# Altium schematic symbol library AdamsParts.SchLib: 265 symbols (part 3 of 3)
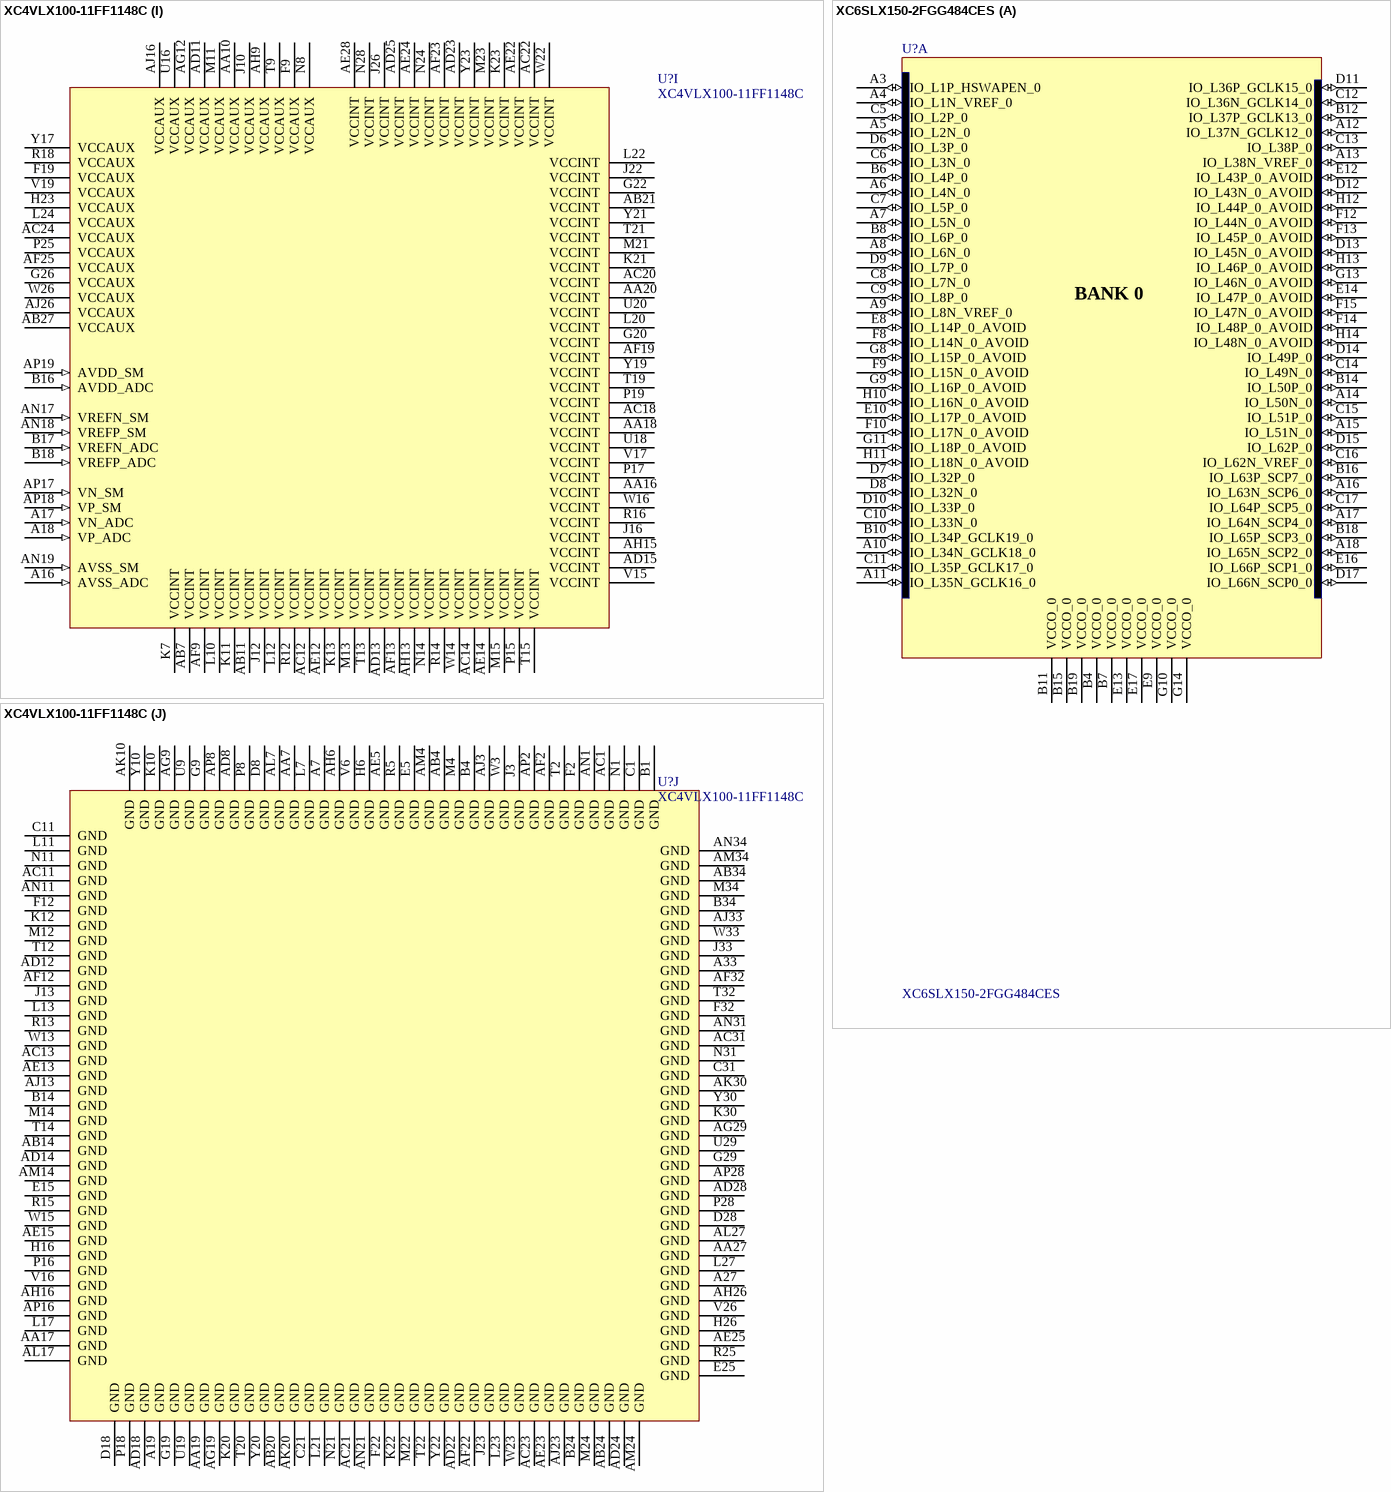
[diagram p22: symbols XC4VLX100-11FF1148C to XC6SLX150-2FGG484CES]

## XC4VLX100-11FF1148C
designator U?
Xilinx Virtex-4 LX Platform FPGA, 1148-Ball FFBGA, Speed Grade 11, 768 User I/Os, Commercial Grade; PackageDocument: ver1.0, Oct-2002; Published: 13-Dec-2004; LatestRevisionDate: 4-Mar-2005; LatestRevisionNote: D_IN & CS_B pins changed from I/O to Input. DOUT_BUSY pin changed from I/O to Output.; DatasheetDocument: ver1.2, Dec-2004; PackageReference: FF1148; Publisher: Altium Limited; ComponentLink2Description: Virtex-4 Overview; ComponentLink2URL: http://www.xilinx.com/products/virtex4/overview.htm; ComponentLink3Description: Datasheet; ComponentLink3URL: http://direct.xilinx.com/bvdocs/userguides/ug075.pdf; Code_JEDEC: MS-034-AAR-1
footprint FF1148 (1148-Ball Flip-Chip Fine Pitch Ball Grid Array (FF1148))
3D model XC4VLX100-FF1148 (1148-Ball Flip-Chip Fine Pitch Ball Grid Array (FF1148))
signal-integrity model XC4VLX100_FF1148 (Virtex-4)
part A pins: A15 IO_L24P_LC_1 (io), A20 IO_L17N_CC_LC_1 (io), AB15 IO_L2N_D12_LC_2 (io), AB16 IO_L14N_GC_LC_2 (io), AB17 IO_L14P_GC_LC_2 (io), AB18 IO_L9N_GC_CC_LC_2 (io), AB19 VCCO_2 (power), AC15 IO_L2P_D13_LC_2 (io), AC16 VCCO_2 (power), AC17 IO_L12N_GC_VREF_LC_2 (io), AC19 IO_L9P_GC_CC_LC_2 (io), AD16 IO_L10P_GC_LC_2 (io), AD17 IO_L12P_GC_LC_2 (io), AD19 IO_L23P_VRN_LC_2 (io), AD20 IO_L17N_LC_2 (io), AD21 IO_L17P_LC_2 (io), AE19 IO_L23N_VRP_LC_2 (io), AE20 VCCO_2 (power), AE21 IO_L7P_D3_LC_2 (io), AF14 IO_L6P_D5_LC_2 (io), AF15 IO_L10N_GC_LC_2 (io), AF20 IO_L5N_D6_LC_2 (io), AF21 IO_L7N_D2_LC_2 (io), AG13 IO_L6N_D4_LC_2 (io), AG14 VCCO_2 (power), AG15 IO_L22P_LC_2 (io), AG20 IO_L21P_LC_2 (io), AG21 IO_L5P_D7_LC_2 (io), AG22 IO_L3P_D11_LC_2 (io), AH14 IO_L22N_LC_2 (io), AH20 IO_L21N_LC_2 (io), AH21 VCCO_2 (power), AH22 IO_L3N_D10_LC_2 (io), AJ14 IO_L20N_VREF_LC_2 (io), AJ15 IO_L20P_LC_2 (io), AJ20 IO_L19P_LC_2 (io), AJ21 IO_L1N_D14_CC_LC_2 (io), AJ22 IO_L1P_D15_CC_LC_2 (io), AK14 IO_L4N_D8_VREF_LC_2 (io), AK15 VCCO_2 (power), AK16 IO_L24N_CC_LC_2 (io), AL14 IO_L4P_D9_LC_2 (io), AL15 IO_L18N_LC_2 (io), AL16 IO_L24P_CC_LC_2 (io), AL18 IO_L15P_GC_LC_2 (io), AL19 IO_L13N_GC_LC_2 (io), AL20 IO_L19N_LC_2 (io), AM15 IO_L18P_LC_2 (io), AM16 IO_L16N_GC_LC_2 (io), AM17 IO_L16P_GC_LC_2 (io), AM18 IO_L15N_GC_LC_2 (io), AM19 VCCO_2 (power), AM20 IO_L13P_GC_LC_2 (io), AN15 IO_L8N_D0_LC_2 (io), AN16 VCCO_2 (power), AN20 IO_L11P_GC_LC_2 (io), AP15 IO_L8P_D1_LC_2 (io), AP20 IO_L11N_GC_LC_2 (io), B15 IO_L24N_LC_1 (io), B19 VCCO_1 (power), B20 IO_L17P_CC_LC_1 (io), C15 IO_L14N_GC_LC_1 (io), C16 VCCO_1 (power), C17 IO_L12P_GC_LC_1 (io), C18 IO_L13N_GC_LC_1 (io), C19 IO_L13P_GC_LC_1 (io), C20 IO_L15N_GC_LC_1 (io), D16 IO_L14P_GC_LC_1 (io), D17 IO_L12N_GC_VREF_LC_1 (io), D19 IO_L11N_GC_LC_1 (io), D20 IO_L15P_GC_LC_1 (io), D21 IO_L3N_D26_LC_1 (io), E19 IO_L11P_GC_LC_1 (io), E20 VCCO_1 (power), E21 IO_L3P_D27_LC_1 (io), F13 IO_L8P_D17_CC_LC_1 (io), F14 IO_L22N_LC_1 (io), F20 IO_L23N_LC_1 (io), F21 IO_L23P_LC_1 (io), G13 IO_L8N_D16_CC_LC_1 (io), G14 VCCO_1 (power), G15 IO_L22P_LC_1 (io), G21 IO_L21P_LC_1 (io), H13 IO_L6N_D20_LC_1 (io), H14 IO_L6P_D21_LC_1 (io), H15 IO_L20P_LC_1 (io), H20 IO_L21N_LC_1 (io), H21 VCCO_1 (power), H22 IO_L7P_D19_LC_1 (io), J14 IO_L4P_D25_LC_1 (io), J15 IO_L20N_VREF_LC_1 (io), J20 IO_L19P_LC_1 (io), J21 IO_L7N_D18_LC_1 (io), K14 IO_L4N_D24_VREF_LC_1 (io), K15 VCCO_1 (power), K16 IO_L18P_VRN_LC_1 (io), L14 IO_L2N_D28_LC_1 (io), L15 IO_L2P_D29_LC_1 (io), L16 IO_L18N_VRP_LC_1 (io), L18 IO_L9N_GC_LC_1 (io), L19 IO_L19N_LC_1 (io), M16 IO_L16P_GC_CC_LC_1 (io), M17 IO_L10P_GC_LC_1 (io), M18 IO_L9P_GC_LC_1 (io), M19 VCCO_1 (power), M20 IO_L5N_D22_LC_1 (io), N15 IO_L16N_GC_CC_LC_1 (io), N16 VCCO_1 (power), N17 IO_L10N_GC_LC_1 (io), N18 IO_L1N_D30_LC_1 (io), N19 IO_L1P_D31_LC_1 (io), N20 IO_L5P_D23_LC_1 (io)
part B pins: AE16 IO_L6N_GC_LC_4 (io), AE17 IO_L6P_GC_LC_4 (io), AE18 IO_L1N_GC_LC_4 (io), AF16 IO_L2N_GC_LC_4 (io), AF17 VCCO_4 (power), AF18 IO_L1P_GC_LC_4 (io), AG16 IO_L2P_GC_LC_4 (io), AG17 IO_L5N_GC_LC_4 (io), AG18 IO_L5P_GC_LC_4 (io), AH17 IO_L8N_GC_CC_LC_4 (io), AH18 IO_L3N_GC_LC_4 (io), AH19 IO_L3P_GC_LC_4 (io), AJ17 IO_L8P_GC_CC_LC_4 (io), AJ18 VCCO_4 (power), AJ19 IO_L7P_GC_VRN_LC_4 (io), AK17 IO_L4N_GC_VREF_LC_4 (io), AK18 IO_L4P_GC_LC_4 (io), AK19 IO_L7N_GC_VRP_LC_4 (io), E16 IO_L6P_GC_LC_3 (io), E17 IO_L4N_GC_VREF_LC_3 (io), E18 IO_L4P_GC_LC_3 (io), F16 IO_L6N_GC_LC_3 (io), F17 VCCO_3 (power), F18 IO_L1P_GC_CC_LC_3 (io), G16 IO_L8N_GC_LC_3 (io), G17 IO_L8P_GC_LC_3 (io), G18 IO_L1N_GC_CC_LC_3 (io), H17 IO_L2P_GC_VRN_LC_3 (io), H18 IO_L3N_GC_LC_3 (io), H19 IO_L3P_GC_LC_3 (io), J17 IO_L2N_GC_VRP_LC_3 (io), J18 VCCO_3 (power), J19 IO_L7N_GC_LC_3 (io), K17 IO_L5N_GC_LC_3 (io), K18 IO_L5P_GC_LC_3 (io), K19 IO_L7P_GC_LC_3 (io)
part C pins: A2 VCCO_6 (power), A3 IO_L20N_VREF_6 (io), A4 IO_L20P_6 (io), A5 IO_L22P_6 (io), A6 IO_L12P_6 (io), A8 IO_L10P_6 (io), A9 IO_L15N_6 (io), A10 IO_L15P_6 (io), A11 IO_L3P_6 (io), A12 VCCO_6 (power), A13 IO_L17N_6 (io), A14 IO_L17P_6 (io), A21 IO_L21N_5 (io), A22 VCCO_5 (power), A23 IO_L1N_ADC7_5 (io), A24 IO_L3P_ADC5_5 (io), A25 IO_L3N_ADC5_5 (io), A26 IO_L2P_ADC6_5 (io), A28 IO_L14P_5 (io), A29 IO_L14N_5 (io), A30 IO_L18P_5 (io), A31 IO_L24P_CC_LC_5 (io), A32 VCCO_5 (power), B2 IO_L30N_6 (io), B3 IO_L30P_6 (io), B5 IO_L22N_6 (io), B6 IO_L12N_VREF_6 (io), B7 IO_L14P_6 (io), B8 IO_L10N_6 (io), B9 VCCO_6 (power), B10 IO_L2P_6 (io), B11 IO_L3N_6 (io), B12 IO_L9N_CC_LC_6 (io), B13 IO_L9P_CC_LC_6 (io), B21 IO_L21P_5 (io), B22 IO_L17N_5 (io), B23 IO_L1P_ADC7_5 (io), B25 IO_L15P_5 (io), B26 IO_L2N_ADC6_5 (io), B27 IO_L8P_CC_ADC1_LC_5 (io), B28 IO_L25P_CC_LC_5 (io), B29 VCCO_5 (power), B30 IO_L18N_5 (io), B31 IO_L24N_CC_LC_5 (io), B32 IO_L31P_5 (io), B33 IO_L31N_5 (io), C5 IO_L27P_6 (io), C6 VCCO_6 (power), C7 IO_L14N_6 (io), C8 IO_L4N_VREF_6 (io), C9 IO_L4P_6 (io), C10 IO_L2N_6 (io), C12 IO_L1N_6 (io), C13 IO_L25N_CC_LC_6 (io), C14 IO_L25P_CC_LC_6 (io), C22 IO_L17P_5 (io), C23 IO_L5P_ADC4_5 (io), C24 IO_L5N_ADC4_5 (io), C25 IO_L15N_5 (io), C26 VCCO_5 (power), C27 IO_L8N_CC_ADC1_LC_5 (io), C28 IO_L25N_CC_LC_5 (io), C29 IO_L20P_5 (io), C30 IO_L20N_VREF_5 (io), D5 IO_L27N_6 (io), D6 IO_L18N_6 (io), D7 IO_L18P_6 (io), D9 IO_L19P_6 (io), D10 IO_L7N_6 (io), D11 IO_L7P_6 (io), D12 IO_L1P_6 (io), D13 VCCO_6 (power), D14 IO_L29N_6 (io), D22 IO_L23N_VRP_5 (io), D23 VCCO_5 (power), D24 IO_L7P_ADC2_5 (io), D25 IO_L7N_ADC2_5 (io), D26 IO_L10P_5 (io), D27 IO_L12P_5 (io), D29 IO_L29P_5 (io), D30 IO_L26P_5 (io), D31 IO_L26N_5 (io), E6 IO_L26P_6 (io), E7 IO_L23N_VRP_6 (io), E8 IO_L23P_VRN_6 (io), E9 IO_L19N_6 (io), E10 VCCO_6 (power), E11 IO_L11P_6 (io), E12 IO_L21N_6 (io), E13 IO_L21P_6 (io), E14 IO_L29P_6 (io), E22 IO_L23P_VRN_5 (io), E23 IO_L9N_CC_LC_5 (io), E24 IO_L11N_5 (io), E26 IO_L10N_5 (io), E27 IO_L12N_VREF_5 (io), E28 IO_L22P_5 (io), E29 IO_L29N_5 (io), E30 VCCO_5 (power), E31 IO_L32P_5 (io), F6 IO_L26N_6 (io), F7 VCCO_6 (power), F8 IO_L16P_6 (io), F10 IO_L6P_6 (io), F11 IO_L11N_6 (io), F23 IO_L9P_CC_LC_5 (io), F24 IO_L11P_5 (io), F25 IO_L6P_ADC3_5 (io), F26 IO_L6N_ADC3_5 (io), F27 VCCO_5 (power), F28 IO_L22N_5 (io), F29 IO_L28P_5 (io), F30 IO_L28N_VREF_5 (io), F31 IO_L32N_5 (io), G6 IO_L28N_VREF_6 (io), G7 IO_L28P_6 (io), G8 IO_L16N_6 (io), G10 IO_L6N_6 (io), G11 IO_L5N_6 (io), G12 IO_L5P_6 (io), G23 IO_L13P_5 (io), G24 VCCO_5 (power), G25 IO_L4P_5 (io), G27 IO_L27P_5 (io), G28 IO_L27N_5 (io), H7 IO_L31N_6 (io), H8 IO_L31P_6 (io), H9 IO_L8N_CC_LC_6 (io), H10 IO_L8P_CC_LC_6 (io), H11 VCCO_6 (power), H12 IO_L13P_6 (io), H24 IO_L13N_5 (io), H25 IO_L4N_VREF_5 (io), J7 IO_L32N_6 (io), J8 VCCO_6 (power), J9 IO_L24P_CC_LC_6 (io), J11 IO_L13N_6 (io), J24 IO_L19N_5 (io), J25 IO_L16P_5 (io), K8 IO_L32P_6 (io), K9 IO_L24N_CC_LC_6 (io), K24 IO_L19P_5 (io), K25 VCCO_5 (power), K26 IO_L16N_5 (io), L25 IO_L30P_5 (io), L26 IO_L30N_5 (io)
part D pins: AD9 IO_L4N_VREF_8 (io), AD10 IO_L4P_8 (io), AE9 IO_L20N_VREF_8 (io), AE10 VCCO_8 (power), AE11 IO_L26P_8 (io), AE26 IO_L3N_7 (io), AE27 IO_L2N_7 (io), AF10 IO_L20P_8 (io), AF11 IO_L26N_8 (io), AF24 IO_L21N_7 (io), AF26 IO_L3P_7 (io), AF27 VCCO_7 (power), AF28 IO_L2P_7 (io), AG10 IO_L30N_8 (io), AG11 IO_L17N_8 (io), AG23 IO_L21P_7 (io), AG24 VCCO_7 (power), AG25 IO_L22P_7 (io), AG26 IO_L22N_7 (io), AG27 IO_L8P_CC_LC_7 (io), AG28 IO_L8N_CC_LC_7 (io), AH7 IO_L12N_VREF_8 (io), AH8 IO_L12P_8 (io), AH10 IO_L30P_8 (io), AH11 VCCO_8 (power), AH12 IO_L17P_8 (io), AH23 IO_L23P_VRN_7 (io), AH24 IO_L23N_VRP_7 (io), AH25 IO_L28N_VREF_7 (io), AH27 IO_L16N_7 (io), AH28 IO_L6P_7 (io), AH29 IO_L6N_7 (io), AJ4 IO_L2N_8 (io), AJ5 IO_L6N_8 (io), AJ6 IO_L6P_8 (io), AJ7 IO_L7N_8 (io), AJ8 VCCO_8 (power), AJ9 IO_L15N_8 (io), AJ10 IO_L15P_8 (io), AJ11 IO_L23P_VRN_8 (io), AJ12 IO_L21P_8 (io), AJ24 IO_L19N_7 (io), AJ25 IO_L28P_7 (io), AJ27 IO_L16P_7 (io), AJ28 VCCO_7 (power), AJ29 IO_L1N_7 (io), AK4 IO_L2P_8 (io), AK5 VCCO_8 (power), AK6 IO_L10N_8 (io), AK7 IO_L7P_8 (io), AK8 IO_L11N_8 (io), AK9 IO_L28N_VREF_8 (io), AK11 IO_L23N_VRP_8 (io), AK12 IO_L21N_8 (io), AK13 IO_L9P_CC_LC_8 (io), AK21 IO_L5P_7 (io), AK22 IO_L13P_7 (io), AK23 IO_L13N_7 (io), AK24 IO_L19P_7 (io), AK25 VCCO_7 (power), AK26 IO_L26N_SM6_7 (io), AK27 IO_L20P_7 (io), AK28 IO_L20N_VREF_7 (io), AK29 IO_L1P_7 (io), AL4 IO_L1N_8 (io), AL5 IO_L1P_8 (io), AL6 IO_L10P_8 (io), AL8 IO_L11P_8 (io), AL9 IO_L28P_8 (io), AL10 IO_L25N_CC_LC_8 (io), AL11 IO_L25P_CC_LC_8 (io), AL12 VCCO_8 (power), AL13 IO_L9N_CC_LC_8 (io), AL21 IO_L5N_7 (io), AL22 VCCO_7 (power), AL23 IO_L31P_SM2_7 (io), AL24 IO_L25P_CC_SM7_LC_7 (io), AL25 IO_L25N_CC_SM7_LC_7 (io), AL26 IO_L26P_SM6_7 (io), AL28 IO_L14P_7 (io), AL29 IO_L14N_7 (io), AL30 IO_L10N_7 (io), AM5 IO_L14N_8 (io), AM6 IO_L14P_8 (io), AM7 IO_L18N_8 (io), AM8 IO_L22N_8 (io), AM9 VCCO_8 (power), AM10 IO_L19N_8 (io), AM11 IO_L27N_8 (io), AM12 IO_L27P_8 (io), AM13 IO_L13P_8 (io), AM21 IO_L9P_CC_LC_7 (io), AM22 IO_L9N_CC_LC_7 (io), AM23 IO_L31N_SM2_7 (io), AM25 IO_L32N_SM1_7 (io), AM26 IO_L30P_SM3_7 (io), AM27 IO_L30N_SM3_7 (io), AM28 IO_L24N_CC_LC_7 (io), AM29 VCCO_7 (power), AM30 IO_L10P_7 (io), AN2 IO_L8N_CC_LC_8 (io), AN3 IO_L8P_CC_LC_8 (io), AN4 IO_L3N_8 (io), AN5 IO_L16N_8 (io), AN6 VCCO_8 (power), AN7 IO_L18P_8 (io), AN8 IO_L22P_8 (io), AN9 IO_L32N_8 (io), AN10 IO_L19P_8 (io), AN12 IO_L31P_8 (io), AN13 IO_L13N_8 (io), AN14 IO_L5P_8 (io), AN22 IO_L27P_SM5_7 (io), AN23 IO_L27N_SM5_7 (io), AN24 IO_L29N_SM4_7 (io), AN25 IO_L32P_SM1_7 (io), AN26 VCCO_7 (power), AN27 IO_L11N_7 (io), AN28 IO_L24P_CC_LC_7 (io), AN29 IO_L18N_7 (io), AN30 IO_L7N_7 (io), AN32 IO_L4P_7 (io), AN33 IO_L4N_VREF_7 (io), AP3 VCCO_8 (power), AP4 IO_L3P_8 (io), AP5 IO_L16P_8 (io), AP6 IO_L24N_CC_LC_8 (io), AP7 IO_L24P_CC_LC_8 (io), AP9 IO_L32P_8 (io), AP10 IO_L29N_8 (io), AP11 IO_L29P_8 (io), AP12 IO_L31N_8 (io), AP13 VCCO_8 (power), AP14 IO_L5N_8 (io), AP21 IO_L17P_7 (io), AP22 IO_L17N_7 (io), AP23 VCCO_7 (power), AP24 IO_L29P_SM4_7 (io), AP25 IO_L15P_7 (io), AP26 IO_L15N_7 (io), AP27 IO_L11P_7 (io), AP29 IO_L18P_7 (io), AP30 IO_L7P_7 (io), AP31 IO_L12P_7 (io), AP32 IO_L12N_VREF_7 (io), AP33 VCCO_7 (power)
part E pins: C2 IO_L7P_10 (io), C3 IO_L1N_10 (io), C4 IO_L1P_10 (io), C32 IO_L2P_9 (io), C33 IO_L7P_9 (io), C34 IO_L7N_9 (io), D1 IO_L8P_CC_LC_10 (io), D2 IO_L7N_10 (io), D3 VCCO_10 (power), D4 IO_L3P_10 (io), D32 IO_L2N_9 (io), D33 VCCO_9 (power), D34 IO_L8P_CC_LC_9 (io), E1 IO_L8N_CC_LC_10 (io), E2 IO_L9N_CC_LC_10 (io), E3 IO_L9P_CC_LC_10 (io), E4 IO_L3N_10 (io), E32 IO_L11P_9 (io), E33 IO_L11N_9 (io), E34 IO_L8N_CC_LC_9 (io), F1 IO_L17P_10 (io), F3 IO_L6N_10 (io), F4 IO_L6P_10 (io), F5 IO_L2P_10 (io), F33 IO_L14P_9 (io), F34 IO_L14N_9 (io), G1 IO_L17N_10 (io), G2 IO_L14N_10 (io), G3 IO_L14P_10 (io), G4 VCCO_10 (power), G5 IO_L2N_10 (io), G30 IO_L9P_CC_LC_9 (io), G31 IO_L9N_CC_LC_9 (io), G32 IO_L16P_9 (io), G33 IO_L16N_9 (io), G34 VCCO_9 (power), H1 VCCO_10 (power), H2 IO_L19N_10 (io), H3 IO_L19P_10 (io), H4 IO_L11N_10 (io), H5 IO_L11P_10 (io), H27 IO_L1P_9 (io), H28 IO_L1N_9 (io), H29 IO_L6P_9 (io), H30 IO_L6N_9 (io), H31 VCCO_9 (power), H32 IO_L20P_9 (io), H33 IO_L22P_9 (io), H34 IO_L22N_9 (io), J1 IO_L23N_VRP_10 (io), J2 IO_L23P_VRN_10 (io), J4 IO_L18P_10 (io), J5 IO_L10N_10 (io), J6 IO_L10P_10 (io), J27 IO_L3P_9 (io), J28 VCCO_9 (power), J29 IO_L10P_9 (io), J30 IO_L10N_9 (io), J31 IO_L23P_VRN_9 (io), J32 IO_L20N_VREF_9 (io), J34 IO_L29P_9 (io), K1 IO_L26N_10 (io), K2 IO_L26P_10 (io), K3 IO_L25P_CC_LC_10 (io), K4 IO_L18N_10 (io), K5 VCCO_10 (power), K6 IO_L16P_10 (io), K27 IO_L3N_9 (io), K28 IO_L15P_9 (io), K29 IO_L15N_9 (io), K31 IO_L23N_VRP_9 (io), K32 IO_L26P_9 (io), K33 IO_L26N_9 (io), K34 IO_L29N_9 (io), L1 IO_L29P_10 (io), L2 VCCO_10 (power), L3 IO_L25N_CC_LC_10 (io), L4 IO_L22N_10 (io), L5 IO_L22P_10 (io), L6 IO_L16N_10 (io), L8 IO_L15P_10 (io), L9 IO_L4N_VREF_10 (io), L28 IO_L18P_9 (io), L29 IO_L18N_9 (io), L30 IO_L24P_CC_LC_9 (io), L31 IO_L24N_CC_LC_9 (io), L32 VCCO_9 (power), L33 IO_L31P_9 (io), L34 IO_L31N_9 (io), M1 IO_L29N_10 (io), M2 IO_L28N_VREF_10 (io), M3 IO_L28P_10 (io), M5 IO_L27N_10 (io), M6 IO_L27P_10 (io), M7 IO_L21P_10 (io), M8 IO_L15N_10 (io), M9 VCCO_10 (power), M10 IO_L4P_10 (io), M25 IO_L4P_9 (io), M26 IO_L4N_VREF_9 (io), M27 IO_L21P_9 (io), M28 IO_L21N_9 (io), M29 VCCO_9 (power), M30 IO_L28P_9 (io), M31 IO_L28N_VREF_9 (io), M32 IO_L32P_9 (io), M33 IO_L32N_9 (io), N5 IO_L30P_10 (io), N6 VCCO_10 (power), N7 IO_L21N_10 (io), N9 IO_L12N_VREF_10 (io), N10 IO_L12P_10 (io), N12 IO_L5N_10 (io), N13 IO_L5P_10 (io), N22 IO_L5P_9 (io), N23 IO_L5N_9 (io), N25 IO_L12P_9 (io), N26 VCCO_9 (power), N27 IO_L27P_9 (io), N29 IO_L30P_9 (io), N30 IO_L30N_9 (io), P5 IO_L30N_10 (io), P6 IO_L31N_10 (io), P7 IO_L31P_10 (io), P9 IO_L20N_VREF_10 (io), P10 IO_L20P_10 (io), P11 IO_L13N_10 (io), P12 IO_L13P_10 (io), P13 VCCO_10 (power), P20 IO_L17P_9 (io), P22 IO_L13P_9 (io), P23 VCCO_9 (power), P24 IO_L19P_9 (io), P26 IO_L12N_VREF_9 (io), P27 IO_L27N_9 (io), R9 IO_L32N_10 (io), R10 VCCO_10 (power), R11 IO_L24P_CC_LC_10 (io), R19 IO_L17N_9 (io), R20 VCCO_9 (power), R21 IO_L13N_9 (io), R22 IO_L25P_CC_LC_9 (io), R23 IO_L25N_CC_LC_9 (io), R24 IO_L19N_9 (io), T10 IO_L32P_10 (io), T11 IO_L24N_CC_LC_10 (io)
part F pins: AA8 IO_L8N_CC_LC_12 (io), AA9 IO_L8P_CC_LC_12 (io), AA11 IO_L3N_12 (io), AA12 VCCO_12 (power), AA13 IO_L5N_12 (io), AA15 IO_L13N_12 (io), AA22 VCCO_11 (power), AA23 IO_L17P_11 (io), AA24 IO_L17N_11 (io), AA25 IO_L9P_CC_LC_11 (io), AA26 IO_L9N_CC_LC_11 (io), AA28 IO_L1P_11 (io), AA29 IO_L1N_11 (io), AA30 IO_L3N_11 (io), AB5 IO_L1N_12 (io), AB6 IO_L1P_12 (io), AB8 IO_L12N_VREF_12 (io), AB9 VCCO_12 (power), AB10 IO_L25N_CC_LC_12 (io), AB12 IO_L29N_12 (io), AB13 IO_L29P_12 (io), AB22 IO_L29P_11 (io), AB23 IO_L29N_11 (io), AB25 IO_L20P_11 (io), AB26 IO_L20N_VREF_11 (io), AB28 IO_L11N_11 (io), AB29 VCCO_11 (power), AB30 IO_L3P_11 (io), AC2 IO_L2N_12 (io), AC3 IO_L2P_12 (io), AC4 IO_L6N_12 (io), AC5 IO_L6P_12 (io), AC6 VCCO_12 (power), AC7 IO_L12P_12 (io), AC8 IO_L17N_12 (io), AC9 IO_L17P_12 (io), AC10 IO_L25P_CC_LC_12 (io), AC25 IO_L23P_VRN_11 (io), AC26 VCCO_11 (power), AC27 IO_L19N_11 (io), AC28 IO_L11P_11 (io), AC29 IO_L7P_11 (io), AC30 IO_L7N_11 (io), AC32 IO_L6P_11 (io), AC33 IO_L6N_11 (io), AC34 IO_L8N_CC_LC_11 (io), AD1 IO_L4N_VREF_12 (io), AD2 IO_L4P_12 (io), AD3 VCCO_12 (power), AD4 IO_L14N_12 (io), AD5 IO_L11N_12 (io), AD6 IO_L11P_12 (io), AD7 IO_L24N_CC_LC_12 (io), AD26 IO_L23N_VRP_11 (io), AD27 IO_L19P_11 (io), AD29 IO_L15N_11 (io), AD30 IO_L12P_11 (io), AD31 IO_L12N_VREF_11 (io), AD32 IO_L10N_11 (io), AD33 VCCO_11 (power), AD34 IO_L8P_CC_LC_11 (io), AE1 IO_L7N_12 (io), AE2 IO_L10N_12 (io), AE3 IO_L10P_12 (io), AE4 IO_L14P_12 (io), AE6 IO_L19N_12 (io), AE7 IO_L24P_CC_LC_12 (io), AE8 IO_L27N_12 (io), AE29 IO_L15P_11 (io), AE30 VCCO_11 (power), AE31 IO_L16N_11 (io), AE32 IO_L10P_11 (io), AE33 IO_L5P_11 (io), AE34 IO_L5N_11 (io), AF1 IO_L7P_12 (io), AF3 IO_L18N_12 (io), AF4 IO_L20N_VREF_12 (io), AF5 IO_L20P_12 (io), AF6 IO_L19P_12 (io), AF7 VCCO_12 (power), AF8 IO_L27P_12 (io), AF29 IO_L24P_CC_LC_11 (io), AF30 IO_L24N_CC_LC_11 (io), AF31 IO_L16P_11 (io), AF33 IO_L14P_11 (io), AF34 IO_L14N_11 (io), AG1 IO_L16N_12 (io), AG2 IO_L16P_12 (io), AG3 IO_L18P_12 (io), AG4 VCCO_12 (power), AG5 IO_L23N_VRP_12 (io), AG6 IO_L23P_VRN_12 (io), AG7 IO_L31N_12 (io), AG8 IO_L31P_12 (io), AG30 IO_L21P_11 (io), AG31 IO_L21N_11 (io), AG32 IO_L13P_11 (io), AG33 IO_L13N_11 (io), AG34 VCCO_11 (power), AH1 VCCO_12 (power), AH2 IO_L15N_12 (io), AH3 IO_L15P_12 (io), AH4 IO_L28N_VREF_12 (io), AH5 IO_L28P_12 (io), AH30 IO_L32N_11 (io), AH31 VCCO_11 (power), AH32 IO_L22P_11 (io), AH33 IO_L22N_11 (io), AH34 IO_L18N_11 (io), AJ1 IO_L22N_12 (io), AJ2 IO_L22P_12 (io), AJ30 IO_L32P_11 (io), AJ31 IO_L28P_11 (io), AJ32 IO_L28N_VREF_11 (io), AJ34 IO_L18P_11 (io), AK1 IO_L21N_12 (io), AK2 IO_L26N_12 (io), AK3 IO_L26P_12 (io), AK31 IO_L25P_CC_LC_11 (io), AK32 IO_L25N_CC_LC_11 (io), AK33 IO_L26P_11 (io), AK34 IO_L26N_11 (io), AL1 IO_L21P_12 (io), AL2 VCCO_12 (power), AL3 IO_L32N_12 (io), AL31 IO_L31N_11 (io), AL32 VCCO_11 (power), AL33 IO_L30P_11 (io), AL34 IO_L30N_11 (io), AM1 IO_L30N_12 (io), AM2 IO_L30P_12 (io), AM3 IO_L32P_12 (io), AM31 IO_L31P_11 (io), AM32 IO_L27P_11 (io), AM33 IO_L27N_11 (io), W24 IO_L2P_11 (io), W25 IO_L4P_11 (io), Y11 IO_L3P_12 (io), Y12 IO_L9N_CC_LC_12 (io), Y13 IO_L9P_CC_LC_12 (io), Y14 IO_L5P_12 (io), Y15 VCCO_12 (power), Y16 IO_L13P_12 (io), Y24 IO_L2N_11 (io), Y25 VCCO_11 (power), Y26 IO_L4N_VREF_11 (io)
part G pins: AA1 IO_L26P_14 (io), AA2 VCCO_14 (power), AA3 IO_L27N_14 (io), AA4 IO_L25N_CC_LC_14 (io), AA5 IO_L25P_CC_LC_14 (io), AA6 IO_L29P_14 (io), AA31 IO_L31N_13 (io), AA32 VCCO_13 (power), AA33 IO_L30P_13 (io), AA34 IO_L30N_13 (io), AB1 IO_L28N_VREF_14 (io), AB2 IO_L28P_14 (io), AB3 IO_L27P_14 (io), AB31 IO_L31P_13 (io), AB32 IO_L29P_13 (io), AB33 IO_L29N_13 (io), N2 IO_L2N_14 (io), N3 IO_L2P_14 (io), N4 IO_L1P_14 (io), N32 IO_L6P_13 (io), N33 IO_L8P_CC_LC_13 (io), N34 IO_L8N_CC_LC_13 (io), P1 IO_L5N_14 (io), P2 IO_L5P_14 (io), P3 VCCO_14 (power), P4 IO_L1N_14 (io), P29 IO_L5P_13 (io), P30 IO_L7P_13 (io), P31 IO_L7N_13 (io), P32 IO_L6N_13 (io), P33 VCCO_13 (power), P34 IO_L9P_CC_LC_13 (io), R1 IO_L8P_CC_LC_14 (io), R2 IO_L7N_14 (io), R3 IO_L7P_14 (io), R4 IO_L6P_14 (io), R6 IO_L4N_VREF_14 (io), R7 IO_L4P_14 (io), R8 IO_L3P_14 (io), R26 IO_L2P_13 (io), R27 IO_L4P_13 (io), R28 IO_L4N_VREF_13 (io), R29 IO_L5N_13 (io), R30 VCCO_13 (power), R31 IO_L10P_13 (io), R32 IO_L11P_13 (io), R33 IO_L11N_13 (io), R34 IO_L9N_CC_LC_13 (io), T1 IO_L8N_CC_LC_14 (io), T3 IO_L10P_14 (io), T4 IO_L6N_14 (io), T5 IO_L9N_CC_LC_14 (io), T6 IO_L9P_CC_LC_14 (io), T7 VCCO_14 (power), T8 IO_L3N_14 (io), T23 IO_L1P_13 (io), T24 IO_L3P_13 (io), T25 IO_L3N_13 (io), T26 IO_L2N_13 (io), T27 VCCO_13 (power), T28 IO_L12P_13 (io), T29 IO_L13P_13 (io), T30 IO_L13N_13 (io), T31 IO_L10N_13 (io), T33 IO_L14P_13 (io), T34 IO_L14N_13 (io), U1 IO_L12N_VREF_14 (io), U2 IO_L12P_14 (io), U3 IO_L10N_14 (io), U4 VCCO_14 (power), U5 IO_L15N_14 (io), U6 IO_L15P_14 (io), U7 IO_L11N_14 (io), U8 IO_L11P_14 (io), U10 IO_L14P_14 (io), U11 IO_L13N_14 (io), U12 IO_L13P_14 (io), U23 IO_L1N_13 (io), U24 VCCO_13 (power), U25 IO_L19N_13 (io), U26 IO_L15P_13 (io), U27 IO_L15N_13 (io), U28 IO_L12N_VREF_13 (io), U30 IO_L16P_13 (io), U31 IO_L16N_13 (io), U32 IO_L18P_13 (io), U33 IO_L18N_13 (io), U34 VCCO_13 (power), V1 VCCO_14 (power), V2 IO_L16N_14 (io), V3 IO_L16P_14 (io), V4 IO_L18N_14 (io), V5 IO_L18P_14 (io), V7 IO_L22N_14 (io), V8 IO_L17N_14 (io), V9 IO_L17P_14 (io), V10 IO_L14N_14 (io), V11 VCCO_14 (power), V12 IO_L21P_14 (io), V23 IO_L21P_13 (io), V24 IO_L21N_13 (io), V25 IO_L19P_13 (io), V27 IO_L26N_13 (io), V28 IO_L20P_13 (io), V29 IO_L20N_VREF_13 (io), V30 IO_L24N_CC_LC_13 (io), V31 VCCO_13 (power), V32 IO_L22N_13 (io), V33 IO_L17P_13 (io), V34 IO_L17N_13 (io), W1 IO_L20N_VREF_14 (io), W2 IO_L20P_14 (io), W4 IO_L23N_VRP_14 (io), W5 IO_L19N_14 (io), W6 IO_L19P_14 (io), W7 IO_L22P_14 (io), W8 VCCO_14 (power), W9 IO_L31N_14 (io), W10 IO_L32N_14 (io), W11 IO_L32P_14 (io), W12 IO_L21N_14 (io), W27 IO_L26P_13 (io), W28 VCCO_13 (power), W29 IO_L27N_13 (io), W30 IO_L24P_CC_LC_13 (io), W31 IO_L28N_VREF_13 (io), W32 IO_L22P_13 (io), W34 IO_L23N_VRP_13 (io), Y1 IO_L26N_14 (io), Y2 IO_L24N_CC_LC_14 (io), Y3 IO_L24P_CC_LC_14 (io), Y4 IO_L23P_VRN_14 (io), Y5 VCCO_14 (power), Y6 IO_L29N_14 (io), Y7 IO_L30N_14 (io), Y8 IO_L30P_14 (io), Y9 IO_L31P_14 (io), Y27 IO_L32P_13 (io), Y28 IO_L32N_13 (io), Y29 IO_L27P_13 (io), Y31 IO_L28P_13 (io), Y32 IO_L25P_CC_LC_13 (io), Y33 IO_L25N_CC_LC_13 (io), Y34 IO_L23P_VRN_13 (io)
part H pins: D15 TDP_0, F15 TDN_0, R17 CCLK_0 (io), T16 D_IN_0 (in), T17 VCCO_0 (power), T18 HSWAPEN_0 (in), U13 RDWR_B_0 (in), U14 VCCO_0 (power), U15 DONE_0 (io), U17 CS_B_0 (in), U21 INIT_0 (io), U22 PROGRAM_B_0 (in), V13 TMS_0 (in), V14 TCK_0 (in), V18 TDO_0 (out), V20 M2_0 (in), V21 VCCO_0 (power), V22 VBATT_0 (power), W17 TDI_0 (in), W18 VCCO_0 (power), W19 M1_0 (in), W20 M0_0 (in), W21 PWRDWN_B_0 (in), Y18 DOUT_BUSY_0 (out)
part I pins: A16 AVSS_ADC (in), A17 VN_ADC (in), A18 VP_ADC (in), AA10 VCCAUX (power), AA16 VCCINT (power), AA18 VCCINT (power), AA20 VCCINT (power), AB7 VCCINT (power), AB11 VCCINT (power), AB21 VCCINT (power), AB27 VCCAUX (power), AC12 VCCINT (power), AC14 VCCINT (power), AC18 VCCINT (power), AC20 VCCINT (power), AC22 VCCINT (power), AC24 VCCAUX (power), AD11 VCCAUX (power), AD13 VCCINT (power), AD15 VCCINT (power), AD23 VCCINT (power), AD25 VCCINT (power), AE12 VCCINT (power), AE14 VCCINT (power), AE22 VCCINT (power), AE24 VCCINT (power), AE28 VCCINT (power), AF9 VCCINT (power), AF13 VCCINT (power), AF19 VCCINT (power), AF23 VCCINT (power), AF25 VCCAUX (power), AG12 VCCAUX (power), AH9 VCCAUX (power), AH13 VCCINT (power), AH15 VCCINT (power), AJ16 VCCAUX (power), AJ26 VCCAUX (power), AN17 VREFN_SM (in), AN18 VREFP_SM (in), AN19 AVSS_SM (in), AP17 VN_SM (in), AP18 VP_SM (in), AP19 AVDD_SM (in), B16 AVDD_ADC (in), B17 VREFN_ADC (in), B18 VREFP_ADC (in), F9 VCCAUX (power), F19 VCCAUX (power), G20 VCCINT (power), G22 VCCINT (power), G26 VCCAUX (power), H23 VCCAUX (power), J10 VCCAUX (power), J12 VCCINT (power), J16 VCCINT (power), J22 VCCINT (power), J26 VCCINT (power), K7 VCCINT (power), K11 VCCINT (power), K13 VCCINT (power), K21 VCCINT (power), K23 VCCINT (power), L10 VCCINT (power), L12 VCCINT (power), L20 VCCINT (power), L22 VCCINT (power), L24 VCCAUX (power), M11 VCCAUX (power), M13 VCCINT (power), M15 VCCINT (power), M21 VCCINT (power), M23 VCCINT (power), N8 VCCAUX (power), N14 VCCINT (power), N24 VCCINT (power), N28 VCCINT (power), P15 VCCINT (power), P17 VCCINT (power), P19 VCCINT (power), P25 VCCAUX (power), R12 VCCINT (power), R14 VCCINT (power), R16 VCCINT (power), R18 VCCAUX (power), T9 VCCAUX (power), T13 VCCINT (power), T15 VCCINT (power), T19 VCCINT (power), T21 VCCINT (power), U16 VCCAUX (power), U18 VCCINT (power), U20 VCCINT (power), V15 VCCINT (power), V17 VCCINT (power), V19 VCCAUX (power), W14 VCCINT (power), W16 VCCINT (power), W22 VCCINT (power), W26 VCCAUX (power), Y17 VCCAUX (power), Y19 VCCINT (power), Y21 VCCINT (power), Y23 VCCINT (power)
part J pins: A7 GND (power), A19 GND (power), A27 GND (power), A33 GND (power), AA7 GND (power), AA17 GND (power), AA19 GND (power), AA27 GND (power), AB4 GND (power), AB14 GND (power), AB20 GND (power), AB24 GND (power), AB34 GND (power), AC1 GND (power), AC11 GND (power), AC13 GND (power), AC21 GND (power), AC23 GND (power), AC31 GND (power), AD8 GND (power), AD12 GND (power), AD14 GND (power), AD18 GND (power), AD22 GND (power), AD24 GND (power), AD28 GND (power), AE5 GND (power), AE13 GND (power), AE15 GND (power), AE23 GND (power), AE25 GND (power), AF2 GND (power), AF12 GND (power), AF22 GND (power), AF32 GND (power), AG9 GND (power), AG19 GND (power), AG29 GND (power), AH6 GND (power), AH16 GND (power), AH26 GND (power), AJ3 GND (power), AJ13 GND (power), AJ23 GND (power), AJ33 GND (power), AK10 GND (power), AK20 GND (power), AK30 GND (power), AL7 GND (power), AL17 GND (power), AL27 GND (power), AM4 GND (power), AM14 GND (power), AM24 GND (power), AM34 GND (power), AN1 GND (power), AN11 GND (power), AN21 GND (power), AN31 GND (power), AN34 GND (power), AP2 GND (power), AP8 GND (power), AP16 GND (power), AP28 GND (power), B1 GND (power), B4 GND (power), B14 GND (power), B24 GND (power), B34 GND (power), C1 GND (power), C11 GND (power), C21 GND (power), C31 GND (power), D8 GND (power), D18 GND (power), D28 GND (power), E5 GND (power), E15 GND (power), E25 GND (power), F2 GND (power), F12 GND (power), F22 GND (power), F32 GND (power), G9 GND (power), G19 GND (power), G29 GND (power), H6 GND (power), H16 GND (power), H26 GND (power), J3 GND (power), J13 GND (power), J23 GND (power), J33 GND (power), K10 GND (power), K12 GND (power), K20 GND (power), K22 GND (power), K30 GND (power), L7 GND (power), L11 GND (power), L13 GND (power), L17 GND (power), L21 GND (power), L23 GND (power), L27 GND (power), M4 GND (power), M12 GND (power), M14 GND (power), M22 GND (power), M24 GND (power), M34 GND (power), N1 GND (power), N11 GND (power), N21 GND (power), N31 GND (power), P8 GND (power), P16 GND (power), P18 GND (power), P28 GND (power), R5 GND (power), R13 GND (power), R15 GND (power), R25 GND (power), T2 GND (power), T12 GND (power), T14 GND (power), T20 GND (power), T22 GND (power), T32 GND (power), U9 GND (power), U19 GND (power), U29 GND (power), V6 GND (power), V16 GND (power), V26 GND (power), W3 GND (power), W13 GND (power), W15 GND (power), W23 GND (power), W33 GND (power), Y10 GND (power), Y20 GND (power), Y22 GND (power), Y30 GND (power)
part A text: Bank 1; Bank 2
part B text: Bank 3; Bank 4
part C text: Bank 5; Bank 6
part D text: Bank 7; Bank 8
part E text: Bank 9; Bank 10
part F text: Bank 11; Bank 12
part G text: Bank 13; Bank 14

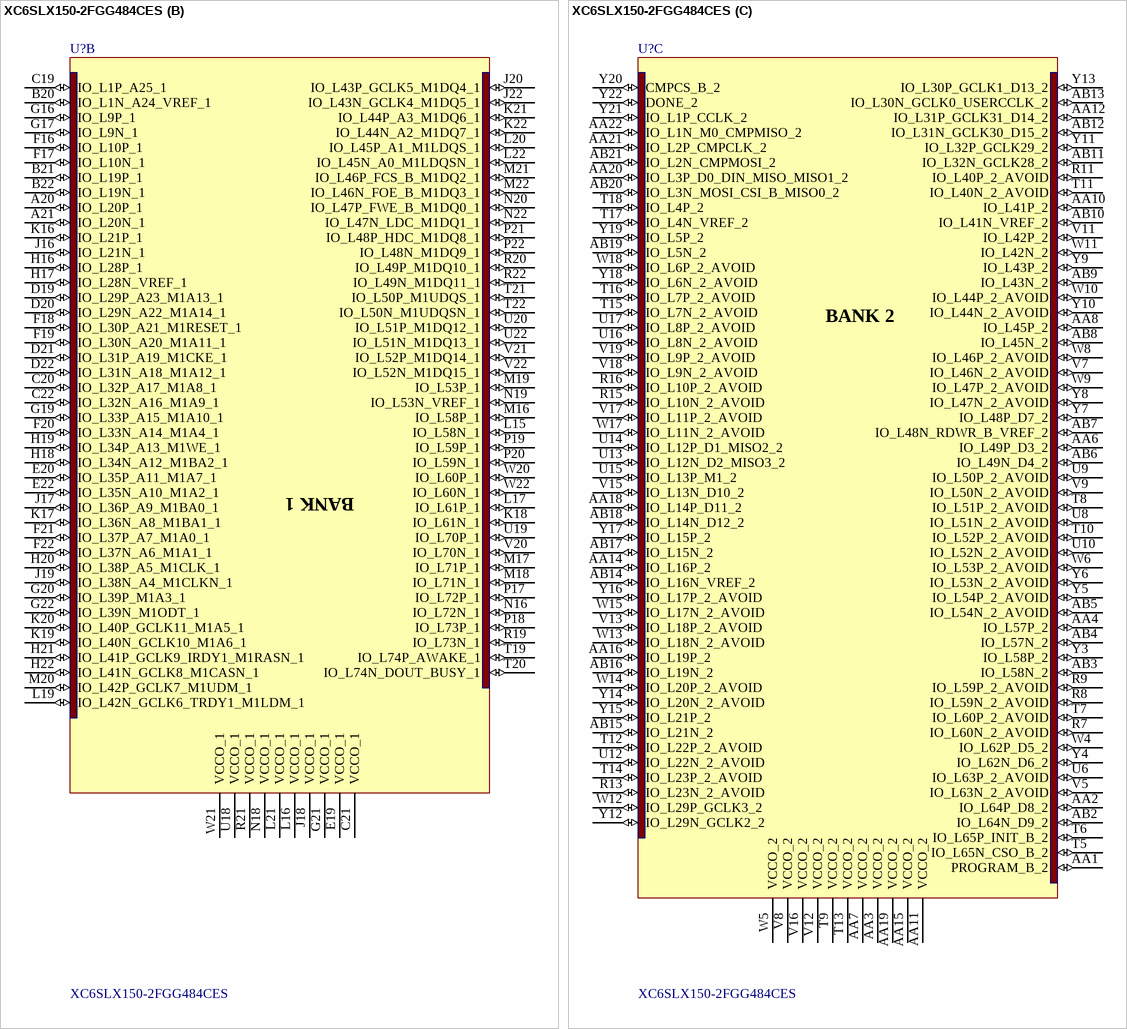
[diagram p18: symbol XC6SLX150-2FGG484CES]

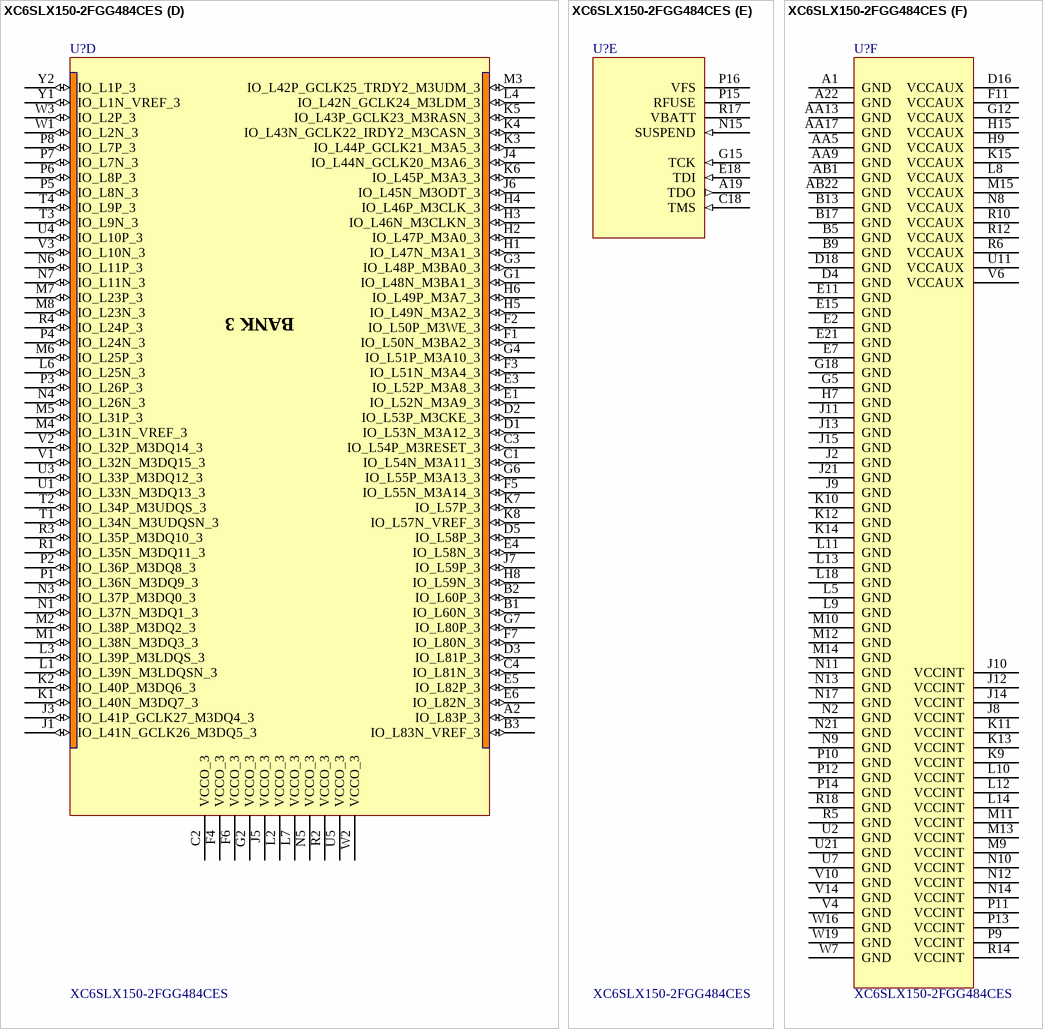
[diagram p19: symbol XC6SLX150-2FGG484CES]

## XC6SLX150-2FGG484CES
designator U?
Spartan 6 LX150 FGG484; Manufacturer: Xilinx; DatasheetVersion: ver2.2, Mar-2009; PackageReference: FGG484; Publisher: Altium Limited; PackageDescription: Fine-Pitch BGA Package FG484/FGG484; Code_JEDEC: MO-205; ComponentLink1Description: Manufacturer Link; ComponentLink1URL: http://www.xilinx.com/products/spartan3a/3adsp.htm; ComponentLink2Description: Datasheet; ComponentLink2URL: http://www.xilinx.com/support/documentation/data_sheets/ds610.pdf; Manufacturers P/N: XC6SLX150-2FGG484CES
footprint FGG484 (BGA, 484-Leads, Body 23x23mm, Pitch 1mm)
part A pins: A3 IO_L1P_HSWAPEN_0 (io), A4 IO_L1N_VREF_0 (io), A5 IO_L2N_0 (io), A6 IO_L4N_0 (io), A7 IO_L5N_0 (io), A8 IO_L6N_0 (io), A9 IO_L8N_VREF_0 (io), A10 IO_L34N_GCLK18_0 (io), A11 IO_L35N_GCLK16_0 (io), A12 IO_L37N_GCLK12_0 (io), A13 IO_L38N_VREF_0 (io), A14 IO_L50N_0 (io), A15 IO_L51N_0 (io), A16 IO_L63N_SCP6_0 (io), A17 IO_L64N_SCP4_0 (io), A18 IO_L65N_SCP2_0 (io), B4 VCCO_0 (power), B6 IO_L4P_0 (io), B7 VCCO_0 (power), B8 IO_L6P_0 (io), B10 IO_L34P_GCLK19_0 (io), B11 VCCO_0 (power), B12 IO_L37P_GCLK13_0 (io), B14 IO_L50P_0 (io), B15 VCCO_0 (power), B16 IO_L63P_SCP7_0 (io), B18 IO_L65P_SCP3_0 (io), B19 VCCO_0 (power), C5 IO_L2P_0 (io), C6 IO_L3N_0 (io), C7 IO_L5P_0 (io), C8 IO_L7N_0 (io), C9 IO_L8P_0 (io), C10 IO_L33N_0 (io), C11 IO_L35P_GCLK17_0 (io), C12 IO_L36N_GCLK14_0 (io), C13 IO_L38P_0 (io), C14 IO_L49N_0 (io), C15 IO_L51P_0 (io), C16 IO_L62N_VREF_0 (io), C17 IO_L64P_SCP5_0 (io), D6 IO_L3P_0 (io), D7 IO_L32P_0 (io), D8 IO_L32N_0 (io), D9 IO_L7P_0 (io), D10 IO_L33P_0 (io), D11 IO_L36P_GCLK15_0 (io), D12 IO_L43N_0_AVOID (io), D13 IO_L45N_0_AVOID (io), D14 IO_L49P_0 (io), D15 IO_L62P_0 (io), D17 IO_L66N_SCP0_0 (io), E8 IO_L14P_0_AVOID (io), E9 VCCO_0 (power), E10 IO_L17P_0_AVOID (io), E12 IO_L43P_0_AVOID (io), E13 VCCO_0 (power), E14 IO_L47P_0_AVOID (io), E16 IO_L66P_SCP1_0 (io), E17 VCCO_0 (power), F8 IO_L14N_0_AVOID (io), F9 IO_L15N_0_AVOID (io), F10 IO_L17N_0_AVOID (io), F12 IO_L44N_0_AVOID (io), F13 IO_L45P_0_AVOID (io), F14 IO_L48P_0_AVOID (io), F15 IO_L47N_0_AVOID (io), G8 IO_L15P_0_AVOID (io), G9 IO_L16P_0_AVOID (io), G10 VCCO_0 (power), G11 IO_L18P_0_AVOID (io), G13 IO_L46N_0_AVOID (io), G14 VCCO_0 (power), H10 IO_L16N_0_AVOID (io), H11 IO_L18N_0_AVOID (io), H12 IO_L44P_0_AVOID (io), H13 IO_L46P_0_AVOID (io), H14 IO_L48N_0_AVOID (io)
part B pins: A20 IO_L20P_1 (io), A21 IO_L20N_1 (io), B20 IO_L1N_A24_VREF_1 (io), B21 IO_L19P_1 (io), B22 IO_L19N_1 (io), C19 IO_L1P_A25_1 (io), C20 IO_L32P_A17_M1A8_1 (io), C21 VCCO_1 (power), C22 IO_L32N_A16_M1A9_1 (io), D19 IO_L29P_A23_M1A13_1 (io), D20 IO_L29N_A22_M1A14_1 (io), D21 IO_L31P_A19_M1CKE_1 (io), D22 IO_L31N_A18_M1A12_1 (io), E19 VCCO_1 (power), E20 IO_L35P_A11_M1A7_1 (io), E22 IO_L35N_A10_M1A2_1 (io), F16 IO_L10P_1 (io), F17 IO_L10N_1 (io), F18 IO_L30P_A21_M1RESET_1 (io), F19 IO_L30N_A20_M1A11_1 (io), F20 IO_L33N_A14_M1A4_1 (io), F21 IO_L37P_A7_M1A0_1 (io), F22 IO_L37N_A6_M1A1_1 (io), G16 IO_L9P_1 (io), G17 IO_L9N_1 (io), G19 IO_L33P_A15_M1A10_1 (io), G20 IO_L39P_M1A3_1 (io), G21 VCCO_1 (power), G22 IO_L39N_M1ODT_1 (io), H16 IO_L28P_1 (io), H17 IO_L28N_VREF_1 (io), H18 IO_L34N_A12_M1BA2_1 (io), H19 IO_L34P_A13_M1WE_1 (io), H20 IO_L38P_A5_M1CLK_1 (io), H21 IO_L41P_GCLK9_IRDY1_M1RASN_1 (io), H22 IO_L41N_GCLK8_M1CASN_1 (io), J16 IO_L21N_1 (io), J17 IO_L36P_A9_M1BA0_1 (io), J18 VCCO_1 (power), J19 IO_L38N_A4_M1CLKN_1 (io), J20 IO_L43P_GCLK5_M1DQ4_1 (io), J22 IO_L43N_GCLK4_M1DQ5_1 (io), K16 IO_L21P_1 (io), K17 IO_L36N_A8_M1BA1_1 (io), K18 IO_L61N_1 (io), K19 IO_L40N_GCLK10_M1A6_1 (io), K20 IO_L40P_GCLK11_M1A5_1 (io), K21 IO_L44P_A3_M1DQ6_1 (io), K22 IO_L44N_A2_M1DQ7_1 (io), L15 IO_L58N_1 (io), L16 VCCO_1 (power), L17 IO_L61P_1 (io), L19 IO_L42N_GCLK6_TRDY1_M1LDM_1 (io), L20 IO_L45P_A1_M1LDQS_1 (io), L21 VCCO_1 (power), L22 IO_L45N_A0_M1LDQSN_1 (io), M16 IO_L58P_1 (io), M17 IO_L71P_1 (io), M18 IO_L71N_1 (io), M19 IO_L53P_1 (io), M20 IO_L42P_GCLK7_M1UDM_1 (io), M21 IO_L46P_FCS_B_M1DQ2_1 (io), M22 IO_L46N_FOE_B_M1DQ3_1 (io), N16 IO_L72N_1 (io), N18 VCCO_1 (power), N19 IO_L53N_VREF_1 (io), N20 IO_L47P_FWE_B_M1DQ0_1 (io), N22 IO_L47N_LDC_M1DQ1_1 (io), P17 IO_L72P_1 (io), P18 IO_L73P_1 (io), P19 IO_L59P_1 (io), P20 IO_L59N_1 (io), P21 IO_L48P_HDC_M1DQ8_1 (io), P22 IO_L48N_M1DQ9_1 (io), R19 IO_L73N_1 (io), R20 IO_L49P_M1DQ10_1 (io), R21 VCCO_1 (power), R22 IO_L49N_M1DQ11_1 (io), T19 IO_L74P_AWAKE_1 (io), T20 IO_L74N_DOUT_BUSY_1 (io), T21 IO_L50P_M1UDQS_1 (io), T22 IO_L50N_M1UDQSN_1 (io), U18 VCCO_1 (power), U19 IO_L70P_1 (io), U20 IO_L51P_M1DQ12_1 (io), U22 IO_L51N_M1DQ13_1 (io), V20 IO_L70N_1 (io), V21 IO_L52P_M1DQ14_1 (io), V22 IO_L52N_M1DQ15_1 (io), W20 IO_L60P_1 (io), W21 VCCO_1 (power), W22 IO_L60N_1 (io)
part C pins: AA1 PROGRAM_B_2 (io), AA2 IO_L64P_D8_2 (io), AA3 VCCO_2 (power), AA4 IO_L57P_2 (io), AA6 IO_L49P_D3_2 (io), AA7 VCCO_2 (power), AA8 IO_L45P_2 (io), AA10 IO_L41P_2 (io), AA11 VCCO_2 (power), AA12 IO_L31P_GCLK31_D14_2 (io), AA14 IO_L16P_2 (io), AA15 VCCO_2 (power), AA16 IO_L19P_2 (io), AA18 IO_L14P_D11_2 (io), AA19 VCCO_2 (power), AA20 IO_L3P_D0_DIN_MISO_MISO1_2 (io), AA21 IO_L2P_CMPCLK_2 (io), AA22 IO_L1N_M0_CMPMISO_2 (io), AB2 IO_L64N_D9_2 (io), AB3 IO_L58N_2 (io), AB4 IO_L57N_2 (io), AB5 IO_L54N_2_AVOID (io), AB6 IO_L49N_D4_2 (io), AB7 IO_L48N_RDWR_B_VREF_2 (io), AB8 IO_L45N_2 (io), AB9 IO_L43N_2 (io), AB10 IO_L41N_VREF_2 (io), AB11 IO_L32N_GCLK28_2 (io), AB12 IO_L31N_GCLK30_D15_2 (io), AB13 IO_L30N_GCLK0_USERCCLK_2 (io), AB14 IO_L16N_VREF_2 (io), AB15 IO_L21N_2 (io), AB16 IO_L19N_2 (io), AB17 IO_L15N_2 (io), AB18 IO_L14N_D12_2 (io), AB19 IO_L5N_2 (io), AB20 IO_L3N_MOSI_CSI_B_MISO0_2 (io), AB21 IO_L2N_CMPMOSI_2 (io), R7 IO_L60N_2_AVOID (io), R8 IO_L59N_2_AVOID (io), R9 IO_L59P_2_AVOID (io), R11 IO_L40P_2_AVOID (io), R13 IO_L23N_2_AVOID (io), R15 IO_L10N_2_AVOID (io), R16 IO_L10P_2_AVOID (io), T5 IO_L65N_CSO_B_2 (io), T6 IO_L65P_INIT_B_2 (io), T7 IO_L60P_2_AVOID (io), T8 IO_L51P_2_AVOID (io), T9 VCCO_2 (power), T10 IO_L52P_2_AVOID (io), T11 IO_L40N_2_AVOID (io), T12 IO_L22P_2_AVOID (io), T13 VCCO_2 (power), T14 IO_L23P_2_AVOID (io), T15 IO_L7N_2_AVOID (io), T16 IO_L7P_2_AVOID (io), T17 IO_L4N_VREF_2 (io), T18 IO_L4P_2 (io), U6 IO_L63P_2_AVOID (io), U8 IO_L51N_2_AVOID (io), U9 IO_L50P_2_AVOID (io), U10 IO_L52N_2_AVOID (io), U12 IO_L22N_2_AVOID (io), U13 IO_L12N_D2_MISO3_2 (io), U14 IO_L12P_D1_MISO2_2 (io), U15 IO_L13P_M1_2 (io), U16 IO_L8N_2_AVOID (io), U17 IO_L8P_2_AVOID (io), V5 IO_L63N_2_AVOID (io), V7 IO_L46N_2_AVOID (io), V8 VCCO_2 (power), V9 IO_L50N_2_AVOID (io), V11 IO_L42P_2 (io), V12 VCCO_2 (power), V13 IO_L18P_2_AVOID (io), V15 IO_L13N_D10_2 (io), V16 VCCO_2 (power), V17 IO_L11P_2_AVOID (io), V18 IO_L9N_2_AVOID (io), V19 IO_L9P_2_AVOID (io), W4 IO_L62P_D5_2 (io), W5 VCCO_2 (power), W6 IO_L53P_2_AVOID (io), W8 IO_L46P_2_AVOID (io), W9 IO_L47P_2_AVOID (io), W10 IO_L44P_2_AVOID (io), W11 IO_L42N_2 (io), W12 IO_L29P_GCLK3_2 (io), W13 IO_L18N_2_AVOID (io), W14 IO_L20P_2_AVOID (io), W15 IO_L17N_2_AVOID (io), W17 IO_L11N_2_AVOID (io), W18 IO_L6P_2_AVOID (io), Y3 IO_L58P_2 (io), Y4 IO_L62N_D6_2 (io), Y5 IO_L54P_2_AVOID (io), Y6 IO_L53N_2_AVOID (io), Y7 IO_L48P_D7_2 (io), Y8 IO_L47N_2_AVOID (io), Y9 IO_L43P_2 (io), Y10 IO_L44N_2_AVOID (io), Y11 IO_L32P_GCLK29_2 (io), Y12 IO_L29N_GCLK2_2 (io), Y13 IO_L30P_GCLK1_D13_2 (io), Y14 IO_L20N_2_AVOID (io), Y15 IO_L21P_2 (io), Y16 IO_L17P_2_AVOID (io), Y17 IO_L15P_2 (io), Y18 IO_L6N_2_AVOID (io), Y19 IO_L5P_2 (io), Y20 CMPCS_B_2 (io), Y21 IO_L1P_CCLK_2 (io), Y22 DONE_2 (io)
part D pins: A2 IO_L83P_3 (io), B1 IO_L60N_3 (io), B2 IO_L60P_3 (io), B3 IO_L83N_VREF_3 (io), C1 IO_L54N_M3A11_3 (io), C2 VCCO_3 (power), C3 IO_L54P_M3RESET_3 (io), C4 IO_L81N_3 (io), D1 IO_L53N_M3A12_3 (io), D2 IO_L53P_M3CKE_3 (io), D3 IO_L81P_3 (io), D5 IO_L58P_3 (io), E1 IO_L52N_M3A9_3 (io), E3 IO_L52P_M3A8_3 (io), E4 IO_L58N_3 (io), E5 IO_L82P_3 (io), E6 IO_L82N_3 (io), F1 IO_L50N_M3BA2_3 (io), F2 IO_L50P_M3WE_3 (io), F3 IO_L51N_M3A4_3 (io), F4 VCCO_3 (power), F5 IO_L55N_M3A14_3 (io), F6 VCCO_3 (power), F7 IO_L80N_3 (io), G1 IO_L48N_M3BA1_3 (io), G2 VCCO_3 (power), G3 IO_L48P_M3BA0_3 (io), G4 IO_L51P_M3A10_3 (io), G6 IO_L55P_M3A13_3 (io), G7 IO_L80P_3 (io), H1 IO_L47N_M3A1_3 (io), H2 IO_L47P_M3A0_3 (io), H3 IO_L46N_M3CLKN_3 (io), H4 IO_L46P_M3CLK_3 (io), H5 IO_L49N_M3A2_3 (io), H6 IO_L49P_M3A7_3 (io), H8 IO_L59N_3 (io), J1 IO_L41N_GCLK26_M3DQ5_3 (io), J3 IO_L41P_GCLK27_M3DQ4_3 (io), J4 IO_L44N_GCLK20_M3A6_3 (io), J5 VCCO_3 (power), J6 IO_L45N_M3ODT_3 (io), J7 IO_L59P_3 (io), K1 IO_L40N_M3DQ7_3 (io), K2 IO_L40P_M3DQ6_3 (io), K3 IO_L44P_GCLK21_M3A5_3 (io), K4 IO_L43N_GCLK22_IRDY2_M3CASN_3 (io), K5 IO_L43P_GCLK23_M3RASN_3 (io), K6 IO_L45P_M3A3_3 (io), K7 IO_L57P_3 (io), K8 IO_L57N_VREF_3 (io), L1 IO_L39N_M3LDQSN_3 (io), L2 VCCO_3 (power), L3 IO_L39P_M3LDQS_3 (io), L4 IO_L42N_GCLK24_M3LDM_3 (io), L6 IO_L25N_3 (io), L7 VCCO_3 (power), M1 IO_L38N_M3DQ3_3 (io), M2 IO_L38P_M3DQ2_3 (io), M3 IO_L42P_GCLK25_TRDY2_M3UDM_3 (io), M4 IO_L31N_VREF_3 (io), M5 IO_L31P_3 (io), M6 IO_L25P_3 (io), M7 IO_L23P_3 (io), M8 IO_L23N_3 (io), N1 IO_L37N_M3DQ1_3 (io), N3 IO_L37P_M3DQ0_3 (io), N4 IO_L26N_3 (io), N5 VCCO_3 (power), N6 IO_L11P_3 (io), N7 IO_L11N_3 (io), P1 IO_L36N_M3DQ9_3 (io), P2 IO_L36P_M3DQ8_3 (io), P3 IO_L26P_3 (io), P4 IO_L24N_3 (io), P5 IO_L8N_3 (io), P6 IO_L8P_3 (io), P7 IO_L7N_3 (io), P8 IO_L7P_3 (io), R1 IO_L35N_M3DQ11_3 (io), R2 VCCO_3 (power), R3 IO_L35P_M3DQ10_3 (io), R4 IO_L24P_3 (io), T1 IO_L34N_M3UDQSN_3 (io), T2 IO_L34P_M3UDQS_3 (io), T3 IO_L9N_3 (io), T4 IO_L9P_3 (io), U1 IO_L33N_M3DQ13_3 (io), U3 IO_L33P_M3DQ12_3 (io), U4 IO_L10P_3 (io), U5 VCCO_3 (power), V1 IO_L32N_M3DQ15_3 (io), V2 IO_L32P_M3DQ14_3 (io), V3 IO_L10N_3 (io), W1 IO_L2N_3 (io), W2 VCCO_3 (power), W3 IO_L2P_3 (io), Y1 IO_L1N_VREF_3 (io), Y2 IO_L1P_3 (io)
part E pins: A19 TDO (out), C18 TMS (in), E18 TDI (in), G15 TCK (in), N15 SUSPEND (in), P15 RFUSE, P16 VFS (power), R17 VBATT (power)
part F pins: A1 GND (power), A22 GND (power), AA5 GND (power), AA9 GND (power), AA13 GND (power), AA17 GND (power), AB1 GND (power), AB22 GND (power), B5 GND (power), B9 GND (power), B13 GND (power), B17 GND (power), D4 GND (power), D16 VCCAUX (power), D18 GND (power), E2 GND (power), E7 GND (power), E11 GND (power), E15 GND (power), E21 GND (power), F11 VCCAUX (power), G5 GND (power), G12 VCCAUX (power), G18 GND (power), H7 GND (power), H9 VCCAUX (power), H15 VCCAUX (power), J2 GND (power), J8 VCCINT (power), J9 GND (power), J10 VCCINT (power), J11 GND (power), J12 VCCINT (power), J13 GND (power), J14 VCCINT (power), J15 GND (power), J21 GND (power), K9 VCCINT (power), K10 GND (power), K11 VCCINT (power), K12 GND (power), K13 VCCINT (power), K14 GND (power), K15 VCCAUX (power), L5 GND (power), L8 VCCAUX (power), L9 GND (power), L10 VCCINT (power), L11 GND (power), L12 VCCINT (power), L13 GND (power), L14 VCCINT (power), L18 GND (power), M9 VCCINT (power), M10 GND (power), M11 VCCINT (power), M12 GND (power), M13 VCCINT (power), M14 GND (power), M15 VCCAUX (power), N2 GND (power), N8 VCCAUX (power), N9 GND (power), N10 VCCINT (power), N11 GND (power), N12 VCCINT (power), N13 GND (power), N14 VCCINT (power), N17 GND (power), N21 GND (power), P9 VCCINT (power), P10 GND (power), P11 VCCINT (power), P12 GND (power), P13 VCCINT (power), P14 GND (power), R5 GND (power), R6 VCCAUX (power), R10 VCCAUX (power), R12 VCCAUX (power), R14 VCCINT (power), R18 GND (power), U2 GND (power), U7 GND (power), U11 VCCAUX (power), U21 GND (power), V4 GND (power), V6 VCCAUX (power), V10 GND (power), V14 GND (power), W7 GND (power), W16 GND (power), W19 GND (power)
part A text: BANK 0
part B text: BANK 1
part C text: BANK 2
part D text: BANK 3

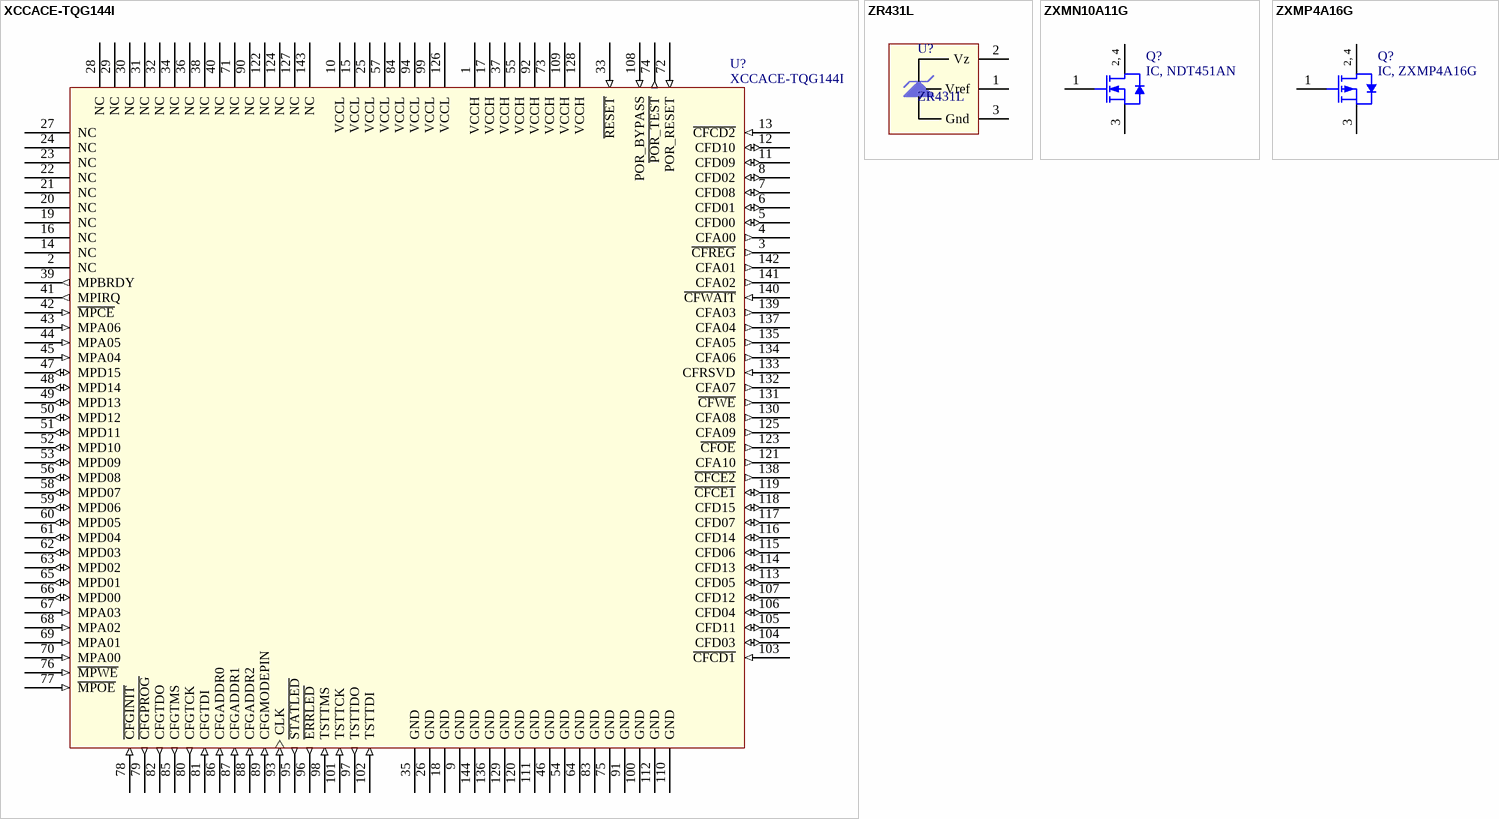
[diagram p20: symbols XCCACE-TQG144I to ZXMP4A16G]

## XCCACE-TQG144I
designator U?
System ACE CF Xilinx
footprint TQFP144 (144-Pin Plastic Thin Quad Flat Pack (TQFP))
pins: 1 VCCH (power), 2 NC, 3 ~{CFREG} (out), 4 CFA00 (out), 5 CFD00 (io), 6 CFD01 (io), 7 CFD08 (io), 8 CFD02 (io), 9 GND (power), 10 VCCL (power), 11 CFD09 (io), 12 CFD10 (io), 13 ~{CFCD2} (in), 14 NC, 15 VCCL (power), 16 NC, 17 VCCH (power), 18 GND (power), 19 NC, 20 NC, 21 NC, 22 NC, 23 NC, 24 NC, 25 VCCL (power), 26 GND (power), 27 NC, 28 NC, 29 NC, 30 NC, 31 NC, 32 NC, 33 ~{RESET} (in), 34 NC, 35 GND (power), 36 NC, 37 VCCH (power), 38 NC, 39 MPBRDY (out), 40 NC, 41 MPIRQ (out), 42 ~{MPCE} (in), 43 MPA06 (in), 44 MPA05 (in), 45 MPA04 (in), 46 GND (power), 47 MPD15 (io), 48 MPD14 (io), 49 MPD13 (io), 50 MPD12 (io), 51 MPD11 (io), 52 MPD10 (io), 53 MPD09 (io), 54 GND (power), 55 VCCH (power), 56 MPD08 (io), 57 VCCL (power), 58 MPD07 (io), 59 MPD06 (io), 60 MPD05 (io), 61 MPD04 (io), 62 MPD03 (io), 63 MPD02 (io), 64 GND (power), 65 MPD01 (io), 66 MPD00 (io), 67 MPA03 (in), 68 MPA02 (in), 69 MPA01 (in), 70 MPA00 (in), 71 NC, 72 POR_RESET (in), 73 VCCH (power), 74 ~{POR_TEST} (out), 75 GND (power), 76 ~{MPWE} (in), 77 ~{MPOE} (in), 78 ~{CFGINIT} (in), 79 ~{CFGPROG} (out), 80 CFGTCK (out), 81 CFGTDI (in), 82 CFGTDO (out), 83 GND (power), 84 VCCL (power), 85 CFGTMS (out), 86 CFGADDR0 (in), 87 CFGADDR1 (in), 88 CFGADDR2 (in), 89 CFGMODEPIN (in), 90 NC, 91 GND (power), 92 VCCH (power), 93 CLK (in), 94 VCCL (power), 95 ~{STATLED} (out), 96 ~{ERRLED} (out), 97 TSTTDO (out), 98 TSTTMS (in), 99 VCCL (power), 100 GND (power), 101 TSTTCK (in), 102 TSTTDI (in), 103 ~{CFCD1} (in), 104 CFD03 (io), 105 CFD11 (io), 106 CFD04 (io), 107 CFD12 (io), 108 POR_BYPASS (in), 109 VCCH (power), 110 GND (power), 111 GND (power), 112 GND (power), 113 CFD05 (io), 114 CFD13 (io), 115 CFD06 (io), 116 CFD14 (io), 117 CFD07 (io), 118 CFD15 (io), 119 ~{CFCE1} (io), 120 GND (power), 121 CFA10 (out), 122 NC, 123 ~{CFOE} (out), 124 NC, 125 CFA09 (out), 126 VCCL (power), 127 NC, 128 VCCH (power), 129 GND (power), 130 CFA08 (out), 131 ~{CFWE} (out), 132 CFA07 (out), 133 CFRSVD (in), 134 CFA06 (out), 135 CFA05 (out), 136 GND (power), 137 CFA04 (out), 138 ~{CFCE2} (out), 139 CFA03 (out), 140 ~{CFWAIT} (in), 141 CFA02 (out), 142 CFA01 (out), 143 NC, 144 GND (power)

## ZR431L
designator U?
Shunt Regulator 25mA 1.25V ref; Manufacturer: Diodes/Zetex; Value: ZR431LF01TA; CanPurchaseFrom: Digikey; Part constraints: ZR431LF01TA; Manufacturer P/N: ZR431LF01TA
footprint SOT23
pins: 1 Vref, 2 Vz, 3 Gnd

## ZXMN10A11G
designator Q?, comment IC, NDT451AN
100V N-Channel Enhancement Mode MOSFET; PackageDocument: 2002; Published: 17-Dec-2003; DatasheetDocument: Mar-02; PackageReference: SOT223; Publisher: Altium Limited; Code_JEDEC: TO-261-AA-B; ComponentLink1Description: Manufacturer Link; ComponentLink1URL: http://www.zetex.com/; ComponentLink2Description: Datasheet; ComponentLink2URL: www.zetex.com/3.0/pdf/ZXMN10A11G.pdf
footprint SOT223 (SOT-223/SC-73; 4 Leads; Body 6.7 x 7.3 mm, inc. leads (LxW max))
pins: 1 G, 2 D, 3 S, 4 D
text: 2, 4

## ZXMP4A16G
designator Q?, comment IC, ZXMP4A16G
40V P-Channel Enhancement Mode MOSFET; PackageDocument: 2002; Published: 17-Dec-2003; DatasheetDocument: Jul-03; PackageReference: SOT223; Publisher: Altium Limited; Code_JEDEC: TO-261-AA-B; ComponentLink1Description: Manufacturer Link; ComponentLink1URL: http://www.zetex.com/; ComponentLink2Description: Datasheet; ComponentLink2URL: www.zetex.com/3.0/pdf/ZXMP4A16G.pdf
footprint SOT223 (SOT-223/SC-73; 4 Leads; Body 6.7 x 7.3 mm, inc. leads (LxW max))
pins: 1 G, 2 D, 3 S, 4 D
text: 2, 4